# EAGLE library part LI-ION-PACK-CONN (library BW-Connectors)
4s Li-Ion battery pack connector with integrated thermistor
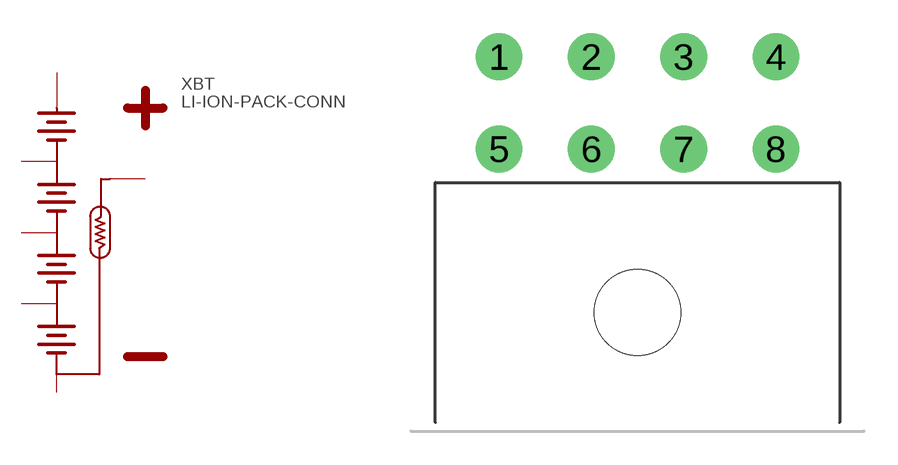
[diagram p5: symbol with the pads of TE-770970; footprint TE-770970]

Designator prefix XBT

## LI-ION-PACK-CONN  [TE-770970]
1  +
2  +
3  BAL2
4  BAL1
5  -
6  -
7  BAL3
8  THERM1

## Footprint TE-770970 (pad centres in mm)
drill 1.4: 1 -6.21,16.81; 2 -2.07,16.81; 3 2.07,16.81; 4 6.21,16.81; 5 -6.21,12.67; 6 -2.07,12.67; 7 2.07,12.67; 8 6.21,12.67
hole 3.86 at 0,5.33